# Altium footprint library SparkFun-Boards.PCBLIB: 38 footprints (part 1 of 3)
Each footprint in its own frame and in the unit in brackets; x right, y up, seen from the top. Pads: shape width x height; smd on the part's side, far side on the other; paste and mask are expansions set on the pad; w line width, h text height; cw(c..) or ccw(c..) is an arc to the next point about the centre after c.
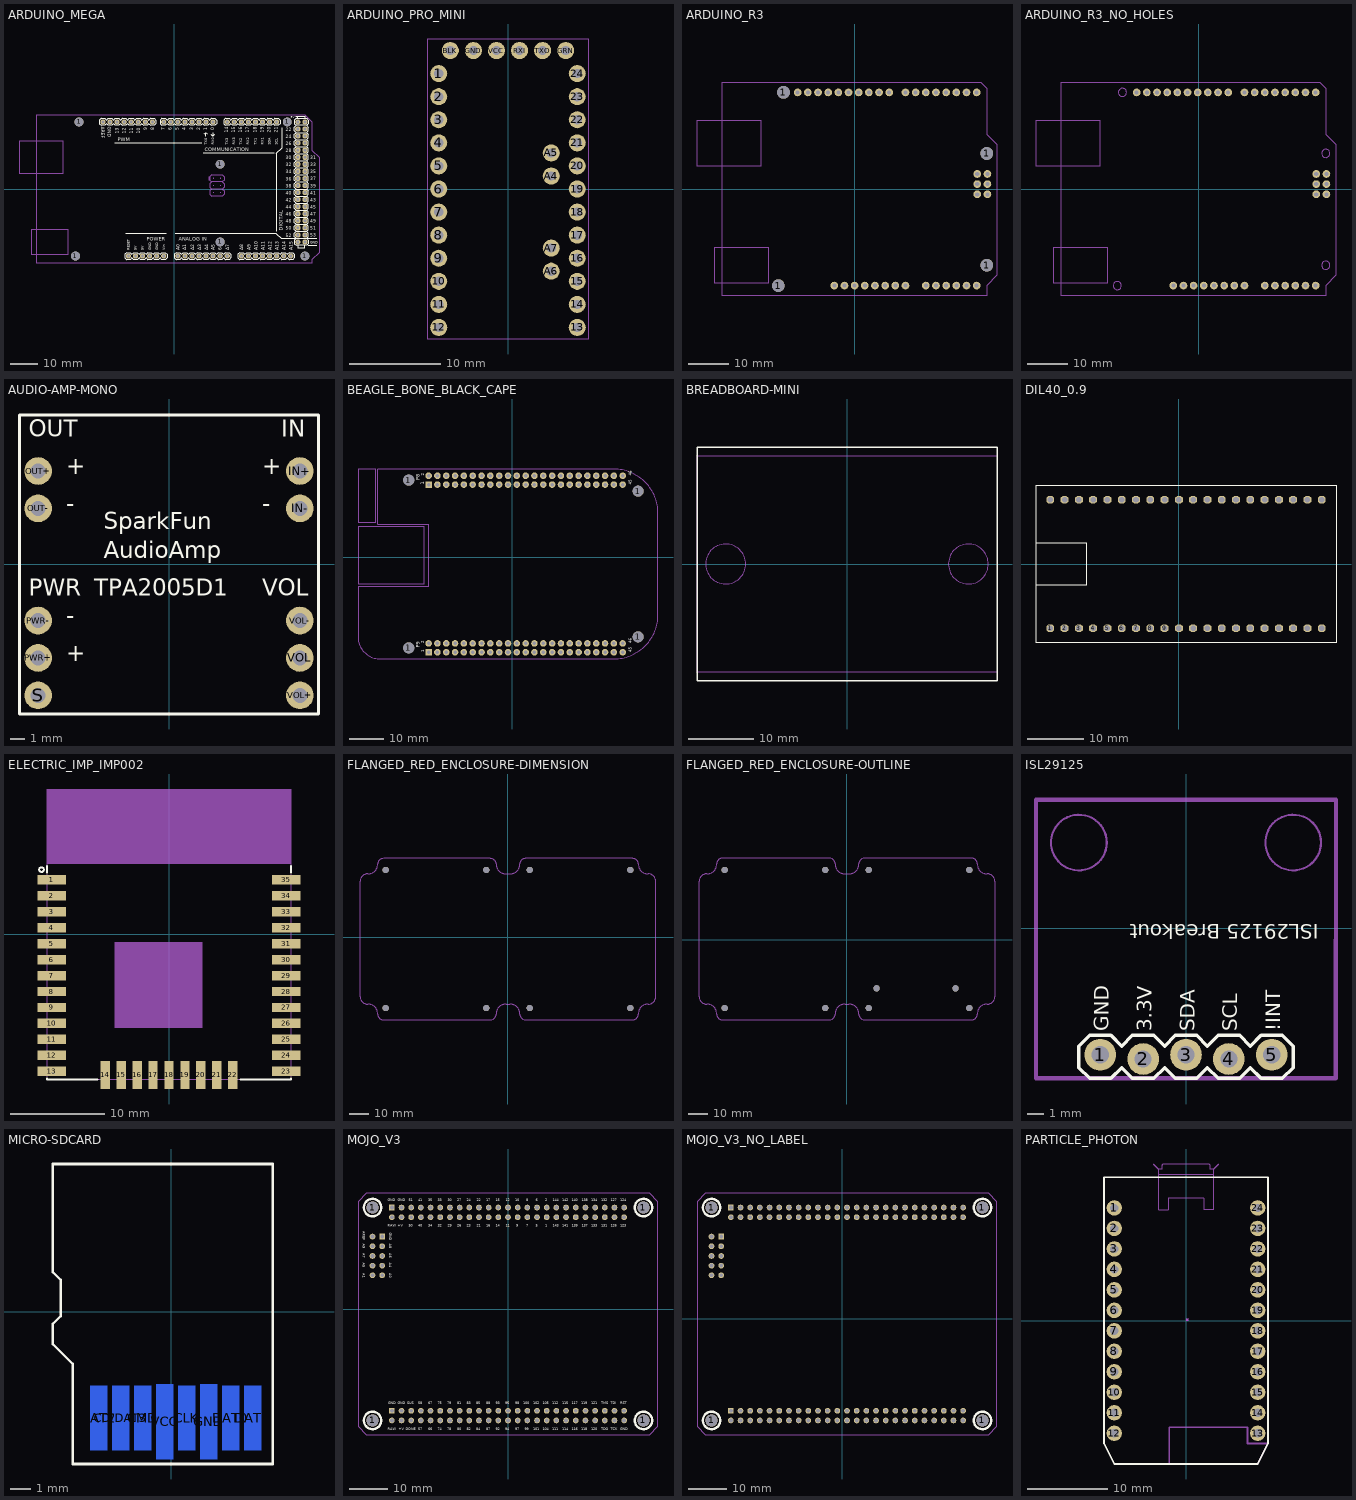
[diagram p0: the footprints below, top view; thin cyan lines are the x and y axes]

## ARDUINO_MEGA [mil]
pads (88):
  round 74 hole 40: 0(550,950) 1(450,950) 2(350,950) 3(250,950) 3.3V(-550,-950) 4(150,950) 5(50,950) 5V@0(-450,-950) 5V@1(1750,950) 5V@2(1850,950) 6(-50,950) 7(-150,950) 8(-310,950) 9(-410,950) 10(-510,950) 11(-610,950) 12(-710,950) 13(-810,950) 14(750,950) 15(850,950) 16(950,950) 17(1050,950) 18(1150,950) 19(1250,950) 20(1350,950) 21(1450,950) A0(50,-950) A1(150,-950) A2(250,-950) A3(350,-950) A4(450,-950) A5(550,-950) A6(650,-950) A7(750,-950) A8(950,-950) A9(1050,-950) A10(1150,-950) A11(1250,-950) A12(1350,-950) A13(1450,-950) A14(1550,-950) A15(1650,-950) AREF(-1010,950) GND@0(-350,-950) GND@1(-250,-950) GND@2(1750,-750) GND@3(1850,-750) GND@4(-910,950) RESET(-650,-950) VIN(-150,-950)
  round 125.98 hole 125.98: 1(-1400,-950) 1(-1350,950) 1(650,-750) 1(650,350) 1(1600,950) 1(1850,-950)
  oct 74x74 hole 40: 22(1750,850) 23(1850,850) 24(1750,750) 25(1850,750) 26(1750,650) 27(1850,650) 28(1750,550) 29(1850,550) 30(1750,450) 31(1850,450) 32(1750,350) 33(1850,350) 34(1750,250) 35(1850,250) 36(1750,150) 37(1850,150) 38(1750,50) 39(1850,50) 40(1750,-50) 41(1850,-50) 42(1750,-150) 43(1850,-150) 44(1750,-250) 45(1850,-250) 46(1750,-350) 47(1850,-350) 48(1750,-450) 49(1850,-450) 50(1750,-550) 51(1850,-550) 52(1750,-650) 53(1850,-650)
Top Overlay:
  drawing of 438 lines, arcs and shapes, not listed
  text "0" at 565,830 h47.6
  text "1" at 465,830 h47.6
  text "2" at 365,830 h47.6
  text "3" at 265,830 h47.6
  text "4" at 165,830 h47.6
  text "5" at 65,830 h47.6
  text "6" at -35,830 h47.6
  text "7" at -135,830 h47.6
  text "8" at -285,830 h47.6
  text "9" at -385,830 h47.6
  text "10" at -485,780 h47.6
  text "11" at -585,780 h47.6
  text "12" at -685,780 h47.6
  text "13" at -785,780 h47.6
  text "14" at 765,795 h47.6
  text "15" at 865,795 h47.6
  text "16" at 965,795 h47.6
  text "17" at 1065,795 h47.6
  text "18" at 1165,795 h47.6
  text "19" at 1265,795 h47.6
  text "20" at 1365,795 h47.6
  text "21" at 1465,795 h47.6
  text "22" at 1581,820 h47.6
  text "24" at 1581,720 h47.6
  text "26" at 1581,620 h47.6
  text "28" at 1581,520 h47.6
  text "30" at 1581,420 h47.6
  text "32" at 1581,320 h47.6
  text "34" at 1581,220 h47.6
  text "36" at 1581,120 h47.6
  text "38" at 1581,20 h47.6
  text "40" at 1581,-80 h47.6
  text "42" at 1581,-180 h47.6
  text "44" at 1581,-280 h47.6
  text "46" at 1581,-380 h47.6
  text "50" at 1581,-580 h47.6
  text "48" at 1581,-480 h47.6
  text "52" at 1581,-680 h47.6
  text "31" at 1925,421 h47.6
  text "33" at 1925,321 h47.6
  text "35" at 1925,221 h47.6
  text "37" at 1925,121 h47.6
  text "39" at 1925,21 h47.6
  text "41" at 1925,-79 h47.6
  text "43" at 1925,-179 h47.6
  text "45" at 1925,-279 h47.6
  text "47" at 1925,-379 h47.6
  text "49" at 1925,-479 h47.6
  text "51" at 1925,-579 h47.6
  text "53" at 1925,-679 h47.6
  text "A0" at 80,-869 h47.6
  text "A1" at 170,-869 h47.6
  text "A2" at 280,-869 h47.6
  text "A3" at 380,-869 h47.6
  text "A4" at 480,-869 h47.6
  text "A5" at 575,-869 h47.6
  text "6" at 675,-869 h47.6
  text "A7" at 780,-869 h47.6
  text "A8" at 980,-869 h47.6
  text "A9" at 1080,-869 h47.6
  text "A10" at 1180,-869 h47.6
  text "A11" at 1280,-869 h47.6
  text "A12" at 1380,-869 h47.6
  text "A13" at 1480,-869 h47.6
  text "A14" at 1580,-869 h47.6
  text "A15" at 1675,-869 h47.6
  text "ANALOG IN" at 60,-730 h51
  text "COMMUNICATION" at 430,535 h51
  text "DIGITAL" at 1535,-590 h51
  text "GND" at 1925,-779 h34
  text "TX0" at 465,630 h34
  text "RX0" at 565,630 h34
  text "PWM" at -800,675 h51
  text "TX3" at 765,630 h34
  text "RX3" at 865,630 h34
  text "TX2" at 965,630 h34
  text "RX2" at 1065,630 h34
  text "TX1" at 1165,630 h34
  text "RX1" at 1265,630 h34
  text "SDA" at 1365,630 h34
  text "SCL" at 1465,630 h34
  text "POWER" at -390,-730 h51
  text "RESET" at -630,-869 h34
  text "5V" at -530,-869 h34
  text "5V" at -430,-869 h34
  text "GND" at -330,-869 h34
  text "GND" at -230,-869 h34
  text "Vin" at -130,-869 h34
  text "GND" at -940,880 h47.6
  text "AREF" at -1035,880 h47.6
  text "5V" at 1650,1000 h29.75
Mechanical 16:
  rectangle: 1540,-960 1560,-940
  rectangle: 1440,-960 1460,-940
  rectangle: 1340,-960 1360,-940
  rectangle: 1240,-960 1260,-940
  rectangle: 1140,-960 1160,-940
  rectangle: 1040,-960 1060,-940
  rectangle: 940,-960 960,-940
  rectangle: 1640,-960 1660,-940
  rectangle: 1340,940 1360,960
  rectangle: 1240,940 1260,960
  rectangle: 1140,940 1160,960
  rectangle: 1040,940 1060,960
  rectangle: 940,940 960,960
  rectangle: 840,940 860,960
  rectangle: 740,940 760,960
  rectangle: 1440,940 1460,960
  rectangle: 640,-960 660,-940
  rectangle: 540,-960 560,-940
  rectangle: 440,-960 460,-940
  rectangle: 340,-960 360,-940
  rectangle: 240,-960 260,-940
  rectangle: 140,-960 160,-940
  rectangle: 40,-960 60,-940
  rectangle: 740,-960 760,-940
  rectangle: 440,940 460,960
  rectangle: 340,940 360,960
  rectangle: 240,940 260,960
  rectangle: 140,940 160,960
  rectangle: 40,940 60,960
  rectangle: -60,940 -40,960
  rectangle: -160,940 -140,960
  rectangle: 540,940 560,960
  rectangle: -420,940 -400,960
  rectangle: -520,940 -500,960
  rectangle: -620,940 -600,960
  rectangle: -720,940 -700,960
  rectangle: -820,940 -800,960
  rectangle: -920,940 -900,960
  rectangle: -1020,940 -1000,960
  rectangle: -320,940 -300,960
  region: 545,160 545,140 565,140 565,160
  region: 645,160 645,140 665,140 665,160
  region: 645,60 645,40 665,40 665,60
  region: 545,60 545,40 565,40 565,60
  region: 645,-40 645,-60 665,-60 665,-40
  region: 545,-40 545,-60 565,-60 565,-40
  region: 1860,140 1860,160 1840,160 1840,140
  region: 1760,140 1760,160 1740,160 1740,140
  region: 1760,240 1760,260 1740,260 1740,240
  region: 1860,240 1860,260 1840,260 1840,240
  region: 1760,340 1760,360 1740,360 1740,340
  region: 1860,340 1860,360 1840,360 1840,340
  region: 1760,440 1760,460 1740,460 1740,440
  region: 1760,540 1760,560 1740,560 1740,540
  region: 1760,640 1760,660 1740,660 1740,640
  region: 1860,440 1860,460 1840,460 1840,440
  region: 1860,540 1860,560 1840,560 1840,540
  region: 1860,640 1860,660 1840,660 1840,640
  region: 1760,740 1760,760 1740,760 1740,740
  region: 1860,740 1860,760 1840,760 1840,740
  region: 1760,840 1760,860 1740,860 1740,840
  region: 1860,840 1860,860 1840,860 1840,840
  region: 1860,-660 1860,-640 1840,-640 1840,-660
  region: 1760,-660 1760,-640 1740,-640 1740,-660
  region: 1760,-560 1760,-540 1740,-540 1740,-560
  region: 1860,-560 1860,-540 1840,-540 1840,-560
  region: 1760,-460 1760,-440 1740,-440 1740,-460
  region: 1860,-460 1860,-440 1840,-440 1840,-460
  region: 1760,-360 1760,-340 1740,-340 1740,-360
  region: 1760,-260 1760,-240 1740,-240 1740,-260
  region: 1760,-160 1760,-140 1740,-140 1740,-160
  region: 1860,-360 1860,-340 1840,-340 1840,-360
  region: 1860,-260 1860,-240 1840,-240 1840,-260
  region: 1860,-160 1860,-140 1840,-140 1840,-160
  region: 1760,-60 1760,-40 1740,-40 1740,-60
  region: 1860,-60 1860,-40 1840,-40 1840,-60
  region: 1760,40 1760,60 1740,60 1740,40
  region: 1860,40 1860,60 1840,60 1840,40
  rectangle: 1840,-760 1860,-740
  rectangle: 1740,-760 1760,-740
  rectangle: 1840,940 1860,960
  rectangle: 1740,940 1760,960
  rectangle: -160,-960 -140,-940
  rectangle: -260,-960 -240,-940
  rectangle: -360,-960 -340,-940
  rectangle: -460,-960 -440,-940
  rectangle: -560,-960 -540,-940
  rectangle: -660,-960 -640,-940
  lines w5: -2200,225 -2200,675 -1575,675 -1575,225 -2200,225 ; -2025,-925 -1500,-925 -1500,-575 -2025,-575 -2025,-925
  lines w8: 491.81,125 491.81,175 ; 530,0 505,25 505,75 530,100 ; 530,0 505,-25 505,-75 530,-100 680,-100 705,-75 705,-25 680,0 ; 530,0 680,0 ; 530,100 505,125 505,175 530,200 680,200 705,175 705,125 680,100 ; 530,100 680,100 ; 680,0 705,25 705,75 680,100 ; -1950,-1050 1950,-1050 1950,-1000 2050,-900 2050,450 1950,550 1950,950 1850,1050 -1950,1050 -1950,-1050

## ARDUINO_PRO_MINI [mil]
pads (34):
  round 74 hole 40: 1(-300,500) 2(-300,400) 3(-300,300) 4(-300,200) 5(-300,100) 6(-300,0) 7(-300,-100) 8(-300,-200) 9(-300,-300) 10(-300,-400) 11(-300,-500) 12(-300,-600) 13(300,-600) 14(300,-500) 15(300,-400) 16(300,-300) 17(300,-200) 18(300,-100) 19(300,0) 20(300,100) 21(300,200) 22(300,300) 23(300,400) 24(300,500) A4(187.5,56.25) A5(187.5,156.25) A6(187.5,-356.25) A7(187.5,-256.25) BLK(-250,600) GND(-150,600) GRN(250,600) RXI(50,600) TXO(150,600) VCC(-50,600)
Mechanical 16:
  lines w5: -350,-650 -350,650 350,650 350,-650 -350,-650

## ARDUINO_R3 [mil]
pads (42):
  round 125 hole 125: 1(-750,-950) 1(-700,950) 1(1300,-750) 1(1300,350)
  round 76 hole 40: 3.3V(100,-950) 5V(200,-950) A0(700,-950) A1(800,-950) A2(900,-950) A3(1000,-950) A4(1100,-950) A5(1200,-950) AREF(-360,950) D0(1200,950) D1(1100,950) D2(1000,950) D3(900,950) D4(800,950) D5(700,950) D6(600,950) D7(500,950) D8(340,950) D9(240,950) D10(140,950) D11(40,950) D12(-60,950) D13(-160,950) GND@1(300,-950) GND@2(400,-950) GND@3(-260,950) GND@4(1305.51,-51.97) IOREF(-100,-950) MISO(1205.51,148.03) MOSI(1305.51,48.03) NC(-200,-950) RESET@1(0,-950) RESET@2(1205.51,-51.97) SCK(1205.51,48.03) SCL(-560,950) SDA(-460,950) VCC(1305.51,148.03) VIN(500,-950)
Mechanical 16:
  lines w8: -1550,225 -925,225 -925,675 -1550,675 -1550,225 ; -1375,-925 -1375,-575 -850,-575 -850,-925 -1375,-925 ; -1300,-1050 -1300,1050 1240,1050 1300,990 1300,540 1400,440 1400,-850 1300,-950 1300,-1050 -1300,-1050
  text "SCL" at -560,900 h27.2
  text "SDA" at -460,900 h27.2
  text "AREF" at -360,900 h27.2
  text "GND" at -260,900 h27.2
  text "D13" at -160,900 h27.2
  text "D12" at -60,900 h27.2
  text "D11" at 40,900 h27.2
  text "D10" at 140,900 h27.2
  text "D9" at 240,900 h27.2
  text "D8" at 340,900 h27.2
  text "D7" at 500,900 h27.2
  text "D6" at 600,900 h27.2
  text "D5" at 700,900 h27.2
  text "D4" at 800,900 h27.2
  text "D3" at 900,900 h27.2
  text "D2" at 1000,900 h27.2
  text "D0/RXI" at 1200,900 h27.2
  text "D1/TXO" at 1100,900 h27.2
  text "!RESET!" at 0,-900 h27.2
  text "3.3V" at 100,-900 h27.2
  text "5V" at 200,-900 h27.2
  text "GND" at 300,-900 h27.2
  text "GND" at 400,-900 h27.2
  text "VIN" at 500,-900 h27.2
  text "A0" at 700,-900 h27.2
  text "A1" at 800,-900 h27.2
  text "A2" at 900,-900 h27.2
  text "A3" at 1000,-900 h27.2
  text "A4" at 1100,-900 h27.2
  text "A5" at 1200,-900 h27.2
  text "IOREF" at -100,-900 h27.2
  text "MISO" at 1150,150 h27.2
  text "SCK" at 1150,50 h27.2
  text "RST" at 1150,-50 h27.2
  text "GND" at 1350,-50 h27.2
  text "MOSI" at 1350,50 h27.2
  text "5V" at 1350,150 h27.2

## ARDUINO_R3_NO_HOLES [mil]
pads (38):
  round 76 hole 40: 3.3V(50,-950) 5V(150,-950) A0(650,-950) A1(750,-950) A2(850,-950) A3(950,-950) A4(1050,-950) A5(1150,-950) AREF(-410,950) D0(1150,950) D1(1050,950) D2(950,950) D3(850,950) D4(750,950) D5(650,950) D6(550,950) D7(450,950) D8(290,950) D9(190,950) D10(90,950) D11(-10,950) D12(-110,950) D13(-210,950) GND@1(250,-950) GND@2(350,-950) GND@3(-310,950) GND@4(1255.51,-51.97) IOREF(-150,-950) MISO(1155.51,148.03) MOSI(1255.51,48.03) NC(-250,-950) RESET@1(-50,-950) RESET@2(1155.51,-51.97) SCK(1155.51,48.03) SCL(-610,950) SDA(-510,950) VCC(1255.51,148.03) VIN(450,-950)
Mechanical 16:
  circle w5: c-800,-950 r40.31
  circle w5: c1250,-750 r40.31
  circle w5: c1250,350 r40.31
  circle w5: c-750,950 r40.31
  lines w8: -1600,225 -975,225 -975,675 -1600,675 -1600,225 ; -1425,-925 -1425,-575 -900,-575 -900,-925 -1425,-925 ; -1350,-1050 -1350,1050 1190,1050 1250,990 1250,540 1350,440 1350,-850 1250,-950 1250,-1050 -1350,-1050
  text "SCL" at -610,900 h27.2
  text "SDA" at -510,900 h27.2
  text "AREF" at -410,900 h27.2
  text "GND" at -310,900 h27.2
  text "D13" at -210,900 h27.2
  text "D12" at -110,900 h27.2
  text "D11" at -10,900 h27.2
  text "D10" at 90,900 h27.2
  text "D9" at 190,900 h27.2
  text "D8" at 290,900 h27.2
  text "D7" at 450,900 h27.2
  text "D6" at 550,900 h27.2
  text "D5" at 650,900 h27.2
  text "D4" at 750,900 h27.2
  text "D3" at 850,900 h27.2
  text "D2" at 950,900 h27.2
  text "D0/RXI" at 1150,900 h27.2
  text "D1/TXO" at 1050,900 h27.2
  text "!RESET!" at -50,-900 h27.2
  text "3.3V" at 50,-900 h27.2
  text "5V" at 150,-900 h27.2
  text "GND" at 250,-900 h27.2
  text "GND" at 350,-900 h27.2
  text "VIN" at 450,-900 h27.2
  text "A0" at 650,-900 h27.2
  text "A1" at 750,-900 h27.2
  text "A2" at 850,-900 h27.2
  text "A3" at 950,-900 h27.2
  text "A4" at 1050,-900 h27.2
  text "A5" at 1150,-900 h27.2
  text "IOREF" at -150,-900 h27.2
  text "MISO" at 1100,150 h27.2
  text "SCK" at 1100,50 h27.2
  text "RST" at 1100,-50 h27.2
  text "GND" at 1300,-50 h27.2
  text "MOSI" at 1300,50 h27.2
  text "5V" at 1300,150 h27.2

## AUDIO-AMP-MONO [mil]
pads (10):
  round 74 hole 40: IN+(350,250) IN-(350,150) OUT+(-350,250) OUT-(-350,150) PWR+(-350,-250) PWR-(-350,-150) S(-350,-350) VOL(350,-250) VOL+(350,-350) VOL-(350,-150)
Top Overlay:
  lines w8: -400,-400 400,-400 400,400 -400,400 -400,-400
  text "SparkFun" at -175,77.5 h77.5
  text "AudioAmp" at -175,0 h77.5
  text "TPA2005D1" at -200,-100 h77.5
  text "OUT" at -375,325 h77.5
  text "IN" at 300,325 h77.5
  text "+" at 250,225 h77.5
  text "-" at 250,125 h77.5
  text "-" at -275,125 h77.5
  text "+" at -275,225 h77.5
  text "PWR" at -375,-100 h77.5
  text "VOL" at 250,-100 h77.5
  text "+" at -275,-275 h77.5
  text "-" at -275,-175 h77.5

## BEAGLE_BONE_BLACK_CAPE [mil]
pads (96):
  round 125 hole 125: 1(-1175,-1025) 1(-1175,875) 1(1425,-900) 1(1425,750)
  rect 74x74 hole 40: P8.1(-950,825) P9.1(-950,-1075)
  round 74 hole 40: P8.2(-950,925) P8.3(-850,825) P8.4(-850,925) P8.5(-750,825) P8.6(-750,925) P8.7(-650,825) P8.8(-650,925) P8.9(-550,825) P8.10(-550,925) P8.11(-450,825) P8.12(-450,925) P8.13(-350,825) P8.14(-350,925) P8.15(-250,825) P8.16(-250,925) P8.17(-150,825) P8.18(-150,925) P8.19(-50,825) P8.20(-50,925) P8.21(50,825) P8.22(50,925) P8.23(150,825) P8.24(150,925) P8.25(250,825) P8.26(250,925) P8.27(350,825) P8.28(350,925) P8.29(450,825) P8.30(450,925) P8.31(550,825) P8.32(550,925) P8.33(650,825) P8.34(650,925) P8.35(750,825) P8.36(750,925) P8.37(850,825) P8.38(850,925) P8.39(950,825) P8.40(950,925) P8.41(1050,825) P8.42(1050,925) P8.43(1150,825) P8.44(1150,925) P8.45(1250,825) P8.46(1250,925) P9.2(-950,-975) P9.3(-850,-1075) P9.4(-850,-975) P9.5(-750,-1075) P9.6(-750,-975) P9.7(-650,-1075) P9.8(-650,-975) P9.9(-550,-1075) P9.10(-550,-975) P9.11(-450,-1075) P9.12(-450,-975) P9.13(-350,-1075) P9.14(-350,-975) P9.15(-250,-1075) P9.16(-250,-975) P9.17(-150,-1075) P9.18(-150,-975) P9.19(-50,-1075) P9.20(-50,-975) P9.21(50,-1075) P9.22(50,-975) P9.23(150,-1075) P9.24(150,-975) P9.25(250,-1075) P9.26(250,-975) P9.27(350,-1075) P9.28(350,-975) P9.29(450,-1075) P9.30(450,-975) P9.31(550,-1075) P9.32(550,-975) P9.33(650,-1075) P9.34(650,-975) P9.35(750,-1075) P9.36(750,-975) P9.37(850,-1075) P9.38(850,-975) P9.39(950,-1075) P9.40(950,-975) P9.41(1050,-1075) P9.42(1050,-975) P9.43(1150,-1075) P9.44(1150,-975) P9.45(1250,-1075) P9.46(1250,-975)
Top Overlay:
  text "1" at -1000,825 h42.5
  text "2" at -1000,925 h34
  text "P8" at -1050,875 h42.5
  text "45" at 1350,825 h34
  text "46" at 1350,925 h34
  text "46" at 1350,-975 h34
  text "45" at 1350,-1075 h34
  text "1" at -1000,-1075 h34
  text "2" at -1000,-975 h34
  text "P9" at -1050,-1025 h42.5
Bottom Overlay:
  text "P8" at -1050,875 h42.5
  text "P9" at -1050,-1025 h42.5
  text "1" at -1000,825 h42.5
  text "1" at -1000,-1075 h34
  text "2" at -1000,-975 h34
  text "2" at -1000,925 h34
  text "46" at 1350,925 h34
  text "45" at 1350,825 h34
  text "45" at 1350,-1075 h34
  text "46" at 1350,-975 h34
Mechanical 13:
  lines w5: -1750,-300 -1000,-300 -1000,350 -1750,350 -1750,-300 ; -1750,400 -1550,400 -1550,1000 -1750,1000 -1750,400
  text "Ethernet" at -1450,50 h42.5
  text "LED/Button" at -1650,700 h42.5
  text "Cutout" at -1300,50 h42.5
Mechanical 16:
  lines w5: -1750,-900 ccw(c-1500,-900) -1500,-1150 1150,-1150 ccw(c1150,-650) 1650,-650 1650,500 ccw(c1150,500) 1150,1000 -1525,1000 -1525,375 -950,375 -950,-325 -1750,-325 -1750,-900

## BREADBOARD-MINI [mil]
Top Overlay:
  lines w8: -900,-700 -900,700 900,700 900,-700 -900,-700
Mechanical 16:
  circle w5: c-728.35,0 r120
  circle w5: c728.35,0 r120
  lines w5: -900,-650 900,-650 900,650 -900,650 -900,-650

## DIL40_0.9 [mil]
pads (40):
  oct 55x55 hole 39.37: 1(-900,-450) 2(-800,-450) 3(-700,-450) 4(-600,-450) 5(-500,-450) 6(-400,-450) 7(-300,-450) 8(-200,-450) 9(-100,-450) 10(0,-450) 11(100,-450) 12(200,-450) 13(300,-450) 14(400,-450) 15(500,-450) 16(600,-450) 17(700,-450) 18(800,-450) 19(900,-450) 20(1000,-450) 21(1000,450) 22(900,450) 23(800,450) 24(700,450) 25(600,450) 26(500,450) 27(400,450) 28(300,450) 29(200,450) 30(100,450) 31(0,450) 32(-100,450) 33(-200,450) 34(-300,450) 35(-400,450) 36(-500,450) 37(-600,450) 38(-700,450) 39(-800,450) 40(-900,450)
Top Overlay:
  lines w5: -1000,-150 -1000,-550 1100,-550 1100,550 -1000,550 -1000,150 ; -1000,-150 -1000,150 ; -1000,-150 -650,-150 -650,150 -1000,150

## ELECTRIC_IMP_IMP002 [mm]
pads (35):
  rect 3x1 smd: 1(-12.5,5.8) 2(-12.5,4.1) 3(-12.5,2.4) 4(-12.5,0.7) 5(-12.5,-1) 6(-12.5,-2.7) 7(-12.5,-4.4) 8(-12.5,-6.1) 9(-12.5,-7.8) 10(-12.5,-9.5) 11(-12.5,-11.2) 12(-12.5,-12.9) 13(-12.5,-14.6) 23(12.5,-14.6) 24(12.5,-12.9) 25(12.5,-11.2) 26(12.5,-9.5) 27(12.5,-7.8) 28(12.5,-6.1) 29(12.5,-4.4) 30(12.5,-2.7) 31(12.5,-1) 32(12.5,0.7) 33(12.5,2.4) 34(12.5,4.1) 35(12.5,5.8)
  rect 1x3 smd: 14(-6.8,-15) 15(-5.1,-15) 16(-3.4,-15) 17(-1.7,-15) 18(0,-15) 19(1.7,-15) 20(3.4,-15) 21(5.1,-15) 22(6.8,-15)
Top Overlay:
  circle w0.203: c-13.6,6.9 r0.25
  lines w0.203: -13,-15.4 -13,-15.5 -7.6,-15.5 ; -13,6.6 -13,7.3 ; 7.6,-15.5 13,-15.5 13,-15.4 ; 13,6.6 13,7.3
Mechanical 16:
  rectangle: -13,7.5 13,15.5
  rectangle: -5.8,-10 3.6,-0.8
  lines w0.127: -13,-15.5 13,-15.5 13,15.5 -13,15.5 -13,-15.5

## FLANGED_RED_ENCLOSURE-DIMENSION [mm]
pads (8):
  round 3.175 hole 3.175: 1(-61.93,-35.91) 1(-61.93,34.09) 1(-10.93,-35.91) 1(-10.93,34.09) 1(11.07,-35.91) 1(11.07,34.09) 1(62.07,-35.91) 1(62.07,34.09)
Mechanical 1:
  lines w0.203: -74.93,-29.91 -74.93,28.09 cw(c-70.93,28.09) -70.93,32.09 ccw(c-70.93,37.09) -65.93,37.09 cw(c-63.067,37.015) -62.992,39.878 -8.89,39.878 cw(c-8.804,37.004) -5.93,37.09 ccw(c-0.93,37.09) -0.93,32.09 1.07,32.09 ccw(c1.07,37.09) 6.07,37.09 cw(c8.874,37.074) 8.89,39.878 63.246,39.878 cw(c63.264,37.072) 66.07,37.09 ccw(c71.07,37.09) 71.07,32.09 cw(c71.179,28.339) 74.93,28.448 74.93,-30.226 cw(c71.158,-30.138) 71.07,-33.91 ccw(c71.07,-38.91) 66.07,-38.91 cw(c63.07,-38.91) 63.07,-41.91 9.07,-41.91 cw(c9.07,-38.91) 6.07,-38.91 ccw(c1.07,-38.91) 1.07,-33.91 -0.93,-33.91 ccw(c-0.93,-38.91) -5.93,-38.91 cw(c-8.93,-38.91) -8.93,-41.91 -62.93,-41.91 cw(c-62.93,-38.91) -65.93,-38.91 ccw(c-70.93,-38.91) -70.93,-33.91 cw(c-70.93,-29.91) -74.93,-29.91

## FLANGED_RED_ENCLOSURE-OUTLINE [mm]
pads (10):
  round 3.175 hole 3.175: 1(-61.93,-34.64) 1(-61.93,35.36) 1(-10.93,-34.64) 1(-10.93,35.36) 1(11.07,-34.64) 1(11.07,35.36) 1(15.07,-24.64) 1(55.07,-24.64) 1(62.07,-34.64) 1(62.07,35.36)
Mechanical 16:
  lines w0.203: -74.93,-28.64 -74.93,29.36 cw(c-70.93,29.36) -70.93,33.36 ccw(c-70.93,38.36) -65.93,38.36 cw(c-62.93,38.36) -62.93,41.36 -8.93,41.36 cw(c-8.93,38.36) -5.93,38.36 ccw(c-0.93,38.36) -0.93,33.36 1.07,33.36 ccw(c1.07,38.36) 6.07,38.36 cw(c9.07,38.36) 9.07,41.36 63.07,41.36 cw(c63.07,38.36) 66.07,38.36 ccw(c71.07,38.36) 71.07,33.36 cw(c71.07,29.36) 75.07,29.36 75.07,-28.64 cw(c71.07,-28.64) 71.07,-32.64 ccw(c71.07,-37.64) 66.07,-37.64 cw(c63.07,-37.64) 63.07,-40.64 9.07,-40.64 cw(c9.07,-37.64) 6.07,-37.64 ccw(c1.07,-37.64) 1.07,-32.64 -0.93,-32.64 ccw(c-0.93,-37.64) -5.93,-37.64 cw(c-8.93,-37.64) -8.93,-40.64 -62.93,-40.64 cw(c-62.93,-37.64) -65.93,-37.64 ccw(c-70.93,-37.64) -70.93,-32.64 cw(c-70.93,-28.64) -74.93,-28.64

## ISL29125 [mil]
pads (5):
  round 74 hole 40: 1(-200,-295) 2(-100,-305) 3(0,-295) 4(100,-305) 5(200,-295)
Top Overlay:
  lines w8: -250,-325 -250,-275 -225,-250 -175,-250 -150,-275 -125,-250 -75,-250 -50,-275 -25,-250 25,-250 50,-275 75,-250 125,-250 150,-275 175,-250 225,-250 250,-275 250,-325 225,-350 175,-350 150,-325 125,-350 75,-350 50,-325 25,-350 -25,-350 -50,-325 -75,-350 -125,-350 -150,-325 -175,-350 -225,-350 -250,-325
  text "GND" at -180,-240 h34
  text "3.3V" at -80,-240 h34
  text "SDA" at 20,-240 h34
  text "SCL" at 120,-240 h34
  text "!INT" at 220,-240 h34
  text "ISL29125 Breakout" at 310,10 h34
Mechanical 16:
  circle w5: c-250,200 r65
  circle w5: c250,200 r65
  rectangle: 190,-310 210,-290
  rectangle: 90,-310 110,-290
  rectangle: -10,-310 10,-290
  rectangle: -110,-310 -90,-290
  rectangle: -210,-310 -190,-290
  lines w10: -350,-350 349.21,-350 350,300 -350,300 -350,-350

## MICRO-SDCARD [mm]
pads (8):
  rect 0.85x3.25 smd far side: CD/DAT3(-2.52,-5.32) CLK(0.78,-5.32) CMD(-1.42,-5.32) DAT0(2.98,-5.32) DAT1(4.08,-5.32) DAT2(-3.62,-5.32)
  rect 0.85x3.75 smd far side: GND(1.88,-5.52) VCC(-0.32,-5.52)
Top Overlay:
  lines w0.127: -5.92,-1.62 -5.92,-0.62 -5.52,-0.22 -5.52,1.58 -5.92,1.98 -5.92,7.38 5.08,7.38 5.08,-7.62 -4.92,-7.62 -4.92,-2.62 -5.92,-1.62

## MOJO_V3 [mm]
pads (114):
  round 3.2 hole 3.2: 1(-35.56,-29.21) 1(-35.56,26.67) 1(35.56,-29.21) 1(35.56,26.67)
  round 1.5 hole 1: 1(10.16,24.13) 2(10.16,26.67) 5(7.62,24.13) 6(7.62,26.67) 7(5.08,24.13) 8(5.08,26.67) 9(2.54,24.13) 10(2.54,26.67) 11(0,24.13) 12(0,26.67) 14(-2.54,24.13) 15(-2.54,26.67) 16(-5.08,24.13) 17(-5.08,26.67) 21(-7.62,24.13) 22(-7.62,26.67) 23(-10.16,24.13) 24(-10.16,26.67) 26(-12.7,24.13) 27(-12.7,26.67) 29(-15.24,24.13) 30(-15.24,26.67) 32(-17.78,24.13) 33(-17.78,26.67) 34(-20.32,24.13) 35(-20.32,26.67) 40(-22.86,24.13) 41(-22.86,26.67) 50(-25.4,24.13) 51(-25.4,26.67) 57(-22.86,-29.21) 58(-22.86,-26.67) 66(-20.32,-29.21) 67(-20.32,-26.67) 74(-17.78,-29.21) 75(-17.78,-26.67) 78(-15.24,-29.21) 79(-15.24,-26.67) 80(-12.7,-29.21) 81(-12.7,-26.67) 82(-10.16,-29.21) 83(-10.16,-26.67) 84(-7.62,-29.21) 85(-7.62,-26.67) 87(-5.08,-29.21) 88(-5.08,-26.67) 92(-2.54,-29.21) 93(-2.54,-26.67) 94(0,-29.21) 95(0,-26.67) 97(2.54,-29.21) 98(2.54,-26.67) 99(5.08,-29.21) 100(5.08,-26.67) 101(7.62,-29.21) 102(7.62,-26.67) 104(10.16,-29.21) 105(10.16,-26.67) 111(12.7,-29.21) 112(12.7,-26.67) 114(15.24,-29.21) 115(15.24,-26.67) 116(17.78,-29.21) 117(17.78,-26.67) 118(20.32,-29.21) 119(20.32,-26.67) 120(22.86,-29.21) 121(22.86,-26.67) 123(30.48,24.13) 124(30.48,26.67) 126(27.94,24.13) 127(27.94,26.67) 131(25.4,24.13) 132(25.4,26.67) 133(22.86,24.13) 134(22.86,26.67) 137(20.32,24.13) 138(20.32,26.67) 139(17.78,24.13) 140(17.78,26.67) 141(15.24,24.13) 142(15.24,26.67) 143(12.7,24.13) 144(12.7,26.67) A0(-33.02,8.89) A1(-35.56,8.89) A4(-33.02,11.43) A5(-35.56,11.43) A6(-33.02,13.97) A7(-35.56,13.97) A8(-33.02,16.51) A9(-35.56,16.51) AREF(-35.56,19.05) DONE(-25.4,-29.21) GND@2(-27.94,26.67) GND@4(-27.94,-26.67) GND@6(30.48,-29.21) RAW@1(-30.48,24.13) RAW@2(-30.48,-29.21) RST(30.48,-26.67) SUS(-25.4,-26.67) TCK(27.94,-29.21) TDI(27.94,-26.67) TDO(25.4,-29.21) TMS(25.4,-26.67) V@1(-27.94,24.13) V@2(-27.94,-29.21)
  rect 1.5x1.5 hole 1: GND@1(-30.48,26.67) GND@3(-30.48,-26.67) GND@5(-33.02,19.05)
Top Overlay:
  circle w0.61: c-35.56,26.67 r2.29
  circle w0.61: c-35.56,-29.21 r2.29
  circle w0.61: c35.56,26.67 r2.29
  circle w0.61: c35.56,-29.21 r2.29
  text "+V" at -28.892,21.59 h0.69
  text "GND" at -28.96,28.382 h0.69
  text "51" at -26.035,28.382 h0.69
  text "50" at -26.035,21.59 h0.69
  text "41" at -23.495,28.382 h0.69
  text "40" at -23.495,21.59 h0.69
  text "35" at -20.955,28.382 h0.69
  text "34" at -20.955,21.59 h0.69
  text "33" at -18.415,28.382 h0.69
  text "32" at -18.415,21.59 h0.69
  text "30" at -15.875,28.382 h0.69
  text "29" at -15.875,21.59 h0.69
  text "27" at -13.335,28.382 h0.69
  text "26" at -13.335,21.59 h0.69
  text "24" at -10.795,28.382 h0.69
  text "23" at -10.795,21.59 h0.69
  text "22" at -8.255,28.382 h0.69
  text "21" at -8.255,21.59 h0.69
  text "17" at -5.715,28.382 h0.69
  text "16" at -5.715,21.59 h0.69
  text "15" at -3.175,28.382 h0.69
  text "14" at -3.175,21.59 h0.69
  text "12" at -0.635,28.382 h0.69
  text "11" at -0.635,21.59 h0.69
  text "10" at 1.905,28.382 h0.69
  text "9" at 2.222,21.59 h0.69
  text "8" at 4.763,28.382 h0.69
  text "7" at 4.763,21.59 h0.69
  text "6" at 7.302,28.382 h0.69
  text "5" at 7.302,21.59 h0.69
  text "2" at 9.842,28.382 h0.69
  text "1" at 9.842,21.59 h0.69
  text "144" at 11.685,28.382 h0.69
  text "143" at 11.685,21.59 h0.69
  text "142" at 14.225,28.382 h0.69
  text "141" at 14.225,21.59 h0.69
  text "140" at 16.765,28.382 h0.69
  text "139" at 16.765,21.59 h0.69
  text "138" at 19.305,28.382 h0.69
  text "137" at 19.305,21.59 h0.69
  text "GND" at -31.522,28.382 h0.69
  text "RAW" at -31.522,21.57 h0.69
  text "134" at 21.872,28.382 h0.69
  text "133" at 21.872,21.59 h0.69
  text "132" at 24.412,28.382 h0.69
  text "131" at 24.412,21.59 h0.69
  text "127" at 26.952,28.382 h0.69
  text "126" at 26.952,21.59 h0.69
  text "124" at 29.492,28.382 h0.69
  text "123" at 29.492,21.59 h0.69
  text "+V" at -28.643,-31.75 h0.69
  text "GND" at -28.988,-24.958 h0.69
  text "58" at -23.535,-24.958 h0.69
  text "57" at -23.535,-31.75 h0.69
  text "67" at -20.995,-24.958 h0.69
  text "66" at -20.995,-31.75 h0.69
  text "75" at -18.455,-24.958 h0.69
  text "74" at -18.455,-31.75 h0.69
  text "79" at -15.915,-24.958 h0.69
  text "78" at -15.915,-31.75 h0.69
  text "81" at -13.375,-24.958 h0.69
  text "80" at -13.375,-31.75 h0.69
  text "83" at -10.835,-24.958 h0.69
  text "82" at -10.835,-31.75 h0.69
  text "85" at -8.295,-24.958 h0.69
  text "84" at -8.295,-31.75 h0.69
  text "88" at -5.755,-24.958 h0.69
  text "87" at -5.755,-31.75 h0.69
  text "93" at -3.215,-24.958 h0.69
  text "92" at -3.215,-31.75 h0.69
  text "95" at -0.675,-24.958 h0.69
  text "94" at -0.675,-31.75 h0.69
  text "98" at 1.865,-24.958 h0.69
  text "97" at 1.865,-31.75 h0.69
  text "100" at 4.025,-24.958 h0.69
  text "99" at 4.342,-31.75 h0.69
  text "102" at 6.565,-24.958 h0.69
  text "101" at 6.565,-31.75 h0.69
  text "105" at 9.105,-24.958 h0.69
  text "104" at 9.105,-31.75 h0.69
  text "112" at 11.645,-24.958 h0.69
  text "111" at 11.645,-31.75 h0.69
  text "115" at 14.185,-24.958 h0.69
  text "114" at 14.185,-31.75 h0.69
  text "117" at 16.725,-24.958 h0.69
  text "116" at 16.725,-31.75 h0.69
  text "121" at 21.805,-24.958 h0.69
  text "120" at 21.805,-31.75 h0.69
  text "119" at 19.265,-24.958 h0.69
  text "118" at 19.265,-31.75 h0.69
  text "RAW" at -31.5,-31.75 h0.69
  text "TMS" at 24.412,-24.958 h0.69
  text "TDO" at 24.412,-31.75 h0.69
  text "RST" at 29.492,-24.958 h0.69
  text "GND" at 29.492,-31.75 h0.69
  text "TDI" at 26.952,-24.958 h0.69
  text "TCK" at 26.952,-31.75 h0.69
  text "SUS" at -26.41,-24.958 h0.69
  text "DONE" at -26.785,-31.75 h0.69
  text "A0" at -31.205,9.475 h0.69
  text "A9" at -38.168,17.105 h0.69
  text "A1" at -38.168,9.475 h0.69
  text "A4" at -31.205,12.185 h0.69
  text "A5" at -38.168,12.185 h0.69
  text "A6" at -31.205,14.645 h0.69
  text "A7" at -38.168,14.645 h0.69
  text "A8" at -31.205,17.105 h0.69
  text "GND" at -31.205,20.07 h0.69
  text "AREF" at -38.168,20.445 h0.69
  text "GND" at -31.496,-24.958 h0.69
Bottom Overlay:
  circle w0.61: c-35.56,26.67 r2.29
  circle w0.61: c-35.56,-29.21 r2.29
  circle w0.61: c35.56,26.67 r2.29
  circle w0.61: c35.56,-29.21 r2.29
Mechanical 16:
  lines w0.203: -39.37,-30.797 -39.37,28.258 -37.148,30.48 37.148,30.48 39.37,28.258 39.37,-30.797 37.148,-33.02 -37.148,-33.02 -39.37,-30.797

## MOJO_V3_NO_LABEL [mm]
pads (114):
  round 3.2 hole 3.2: 1(-34.29,-26.67) 1(-34.29,29.21) 1(36.83,-26.67) 1(36.83,29.21)
  round 1.5 hole 1: 1(11.43,26.67) 2(11.43,29.21) 5(8.89,26.67) 6(8.89,29.21) 7(6.35,26.67) 8(6.35,29.21) 9(3.81,26.67) 10(3.81,29.21) 11(1.27,26.67) 12(1.27,29.21) 14(-1.27,26.67) 15(-1.27,29.21) 16(-3.81,26.67) 17(-3.81,29.21) 21(-6.35,26.67) 22(-6.35,29.21) 23(-8.89,26.67) 24(-8.89,29.21) 26(-11.43,26.67) 27(-11.43,29.21) 29(-13.97,26.67) 30(-13.97,29.21) 32(-16.51,26.67) 33(-16.51,29.21) 34(-19.05,26.67) 35(-19.05,29.21) 40(-21.59,26.67) 41(-21.59,29.21) 50(-24.13,26.67) 51(-24.13,29.21) 57(-21.59,-26.67) 58(-21.59,-24.13) 66(-19.05,-26.67) 67(-19.05,-24.13) 74(-16.51,-26.67) 75(-16.51,-24.13) 78(-13.97,-26.67) 79(-13.97,-24.13) 80(-11.43,-26.67) 81(-11.43,-24.13) 82(-8.89,-26.67) 83(-8.89,-24.13) 84(-6.35,-26.67) 85(-6.35,-24.13) 87(-3.81,-26.67) 88(-3.81,-24.13) 92(-1.27,-26.67) 93(-1.27,-24.13) 94(1.27,-26.67) 95(1.27,-24.13) 97(3.81,-26.67) 98(3.81,-24.13) 99(6.35,-26.67) 100(6.35,-24.13) 101(8.89,-26.67) 102(8.89,-24.13) 104(11.43,-26.67) 105(11.43,-24.13) 111(13.97,-26.67) 112(13.97,-24.13) 114(16.51,-26.67) 115(16.51,-24.13) 116(19.05,-26.67) 117(19.05,-24.13) 118(21.59,-26.67) 119(21.59,-24.13) 120(24.13,-26.67) 121(24.13,-24.13) 123(31.75,26.67) 124(31.75,29.21) 126(29.21,26.67) 127(29.21,29.21) 131(26.67,26.67) 132(26.67,29.21) 133(24.13,26.67) 134(24.13,29.21) 137(21.59,26.67) 138(21.59,29.21) 139(19.05,26.67) 140(19.05,29.21) 141(16.51,26.67) 142(16.51,29.21) 143(13.97,26.67) 144(13.97,29.21) A0(-31.75,11.43) A1(-34.29,11.43) A4(-31.75,13.97) A5(-34.29,13.97) A6(-31.75,16.51) A7(-34.29,16.51) A8(-31.75,19.05) A9(-34.29,19.05) AREF(-34.29,21.59) DONE(-24.13,-26.67) GND@2(-26.67,29.21) GND@4(-26.67,-24.13) GND@6(31.75,-26.67) RAW@1(-29.21,26.67) RAW@2(-29.21,-26.67) RST(31.75,-24.13) SUS(-24.13,-24.13) TCK(29.21,-26.67) TDI(29.21,-24.13) TDO(26.67,-26.67) TMS(26.67,-24.13) V@1(-26.67,26.67) V@2(-26.67,-26.67)
  rect 1.5x1.5 hole 1: GND@1(-29.21,29.21) GND@3(-29.21,-24.13) GND@5(-31.75,21.59)
Top Overlay:
  circle w0.61: c-34.29,29.21 r2.29
  circle w0.61: c36.83,29.21 r2.29
  circle w0.61: c-34.29,-26.67 r2.29
  circle w0.61: c36.83,-26.67 r2.29
Bottom Overlay:
  circle w0.61: c-34.29,29.21 r2.29
  circle w0.61: c36.83,29.21 r2.29
  circle w0.61: c-34.29,-26.67 r2.29
  circle w0.61: c36.83,-26.67 r2.29
Mechanical 16:
  lines w0.203: -38.1,-28.258 -38.1,30.797 -35.877,33.02 38.417,33.02 40.64,30.797 40.64,-28.258 38.417,-30.48 -35.877,-30.48 -38.1,-28.258
  text "+V" at -27.622,24.13 h0.69
  text "GND" at -27.69,30.922 h0.69
  text "51" at -24.765,30.922 h0.69
  text "50" at -24.765,24.13 h0.69
  text "41" at -22.225,30.922 h0.69
  text "40" at -22.225,24.13 h0.69
  text "35" at -19.685,30.922 h0.69
  text "34" at -19.685,24.13 h0.69
  text "33" at -17.145,30.922 h0.69
  text "32" at -17.145,24.13 h0.69
  text "30" at -14.605,30.922 h0.69
  text "29" at -14.605,24.13 h0.69
  text "27" at -12.065,30.922 h0.69
  text "26" at -12.065,24.13 h0.69
  text "24" at -9.525,30.922 h0.69
  text "23" at -9.525,24.13 h0.69
  text "22" at -6.985,30.922 h0.69
  text "21" at -6.985,24.13 h0.69
  text "17" at -4.445,30.922 h0.69
  text "16" at -4.445,24.13 h0.69
  text "15" at -1.905,30.922 h0.69
  text "14" at -1.905,24.13 h0.69
  text "12" at 0.635,30.922 h0.69
  text "11" at 0.635,24.13 h0.69
  text "10" at 3.175,30.922 h0.69
  text "9" at 3.492,24.13 h0.69
  text "8" at 6.032,30.922 h0.69
  text "7" at 6.032,24.13 h0.69
  text "6" at 8.572,30.922 h0.69
  text "5" at 8.572,24.13 h0.69
  text "2" at 11.112,30.922 h0.69
  text "1" at 11.112,24.13 h0.69
  text "144" at 12.955,30.922 h0.69
  text "143" at 12.955,24.13 h0.69
  text "142" at 15.495,30.922 h0.69
  text "141" at 15.495,24.13 h0.69
  text "140" at 18.035,30.922 h0.69
  text "139" at 18.035,24.13 h0.69
  text "138" at 20.575,30.922 h0.69
  text "137" at 20.575,24.13 h0.69
  text "GND" at -30.252,30.922 h0.69
  text "RAW" at -30.252,24.11 h0.69
  text "134" at 23.142,30.922 h0.69
  text "133" at 23.142,24.13 h0.69
  text "132" at 25.682,30.922 h0.69
  text "131" at 25.682,24.13 h0.69
  text "127" at 28.222,30.922 h0.69
  text "126" at 28.222,24.13 h0.69
  text "124" at 30.762,30.922 h0.69
  text "123" at 30.762,24.13 h0.69
  text "+V" at -27.373,-29.21 h0.69
  text "GND" at -27.718,-22.418 h0.69
  text "58" at -22.265,-22.418 h0.69
  text "57" at -22.265,-29.21 h0.69
  text "67" at -19.725,-22.418 h0.69
  text "66" at -19.725,-29.21 h0.69
  text "75" at -17.185,-22.418 h0.69
  text "74" at -17.185,-29.21 h0.69
  text "79" at -14.645,-22.418 h0.69
  text "78" at -14.645,-29.21 h0.69
  text "81" at -12.105,-22.418 h0.69
  text "80" at -12.105,-29.21 h0.69
  text "83" at -9.565,-22.418 h0.69
  text "82" at -9.565,-29.21 h0.69
  text "85" at -7.025,-22.418 h0.69
  text "84" at -7.025,-29.21 h0.69
  text "88" at -4.485,-22.418 h0.69
  text "87" at -4.485,-29.21 h0.69
  text "93" at -1.945,-22.418 h0.69
  text "92" at -1.945,-29.21 h0.69
  text "95" at 0.595,-22.418 h0.69
  text "94" at 0.595,-29.21 h0.69
  text "98" at 3.135,-22.418 h0.69
  text "97" at 3.135,-29.21 h0.69
  text "100" at 5.295,-22.418 h0.69
  text "99" at 5.612,-29.21 h0.69
  text "102" at 7.835,-22.418 h0.69
  text "101" at 7.835,-29.21 h0.69
  text "105" at 10.375,-22.418 h0.69
  text "104" at 10.375,-29.21 h0.69
  text "112" at 12.915,-22.418 h0.69
  text "111" at 12.915,-29.21 h0.69
  text "115" at 15.455,-22.418 h0.69
  text "114" at 15.455,-29.21 h0.69
  text "117" at 17.995,-22.418 h0.69
  text "116" at 17.995,-29.21 h0.69
  text "121" at 23.075,-22.418 h0.69
  text "120" at 23.075,-29.21 h0.69
  text "119" at 20.535,-22.418 h0.69
  text "118" at 20.535,-29.21 h0.69
  text "RAW" at -30.23,-29.21 h0.69
  text "TMS" at 25.682,-22.418 h0.69
  text "TDO" at 25.682,-29.21 h0.69
  text "RST" at 30.762,-22.418 h0.69
  text "GND" at 30.762,-29.21 h0.69
  text "TDI" at 28.222,-22.418 h0.69
  text "TCK" at 28.222,-29.21 h0.69
  text "SUS" at -25.14,-22.418 h0.69
  text "DONE" at -25.515,-29.21 h0.69
  text "A0" at -29.935,12.015 h0.69
  text "A9" at -36.898,19.645 h0.69
  text "A1" at -36.898,12.015 h0.69
  text "A4" at -29.935,14.725 h0.69
  text "A5" at -36.898,14.725 h0.69
  text "A6" at -29.935,17.185 h0.69
  text "A7" at -36.898,17.185 h0.69
  text "A8" at -29.935,19.645 h0.69
  text "GND" at -29.935,22.61 h0.69
  text "AREF" at -36.898,22.985 h0.69
  text "GND" at -30.226,-22.418 h0.69

## PARTICLE_PHOTON [mil]
pads (24):
  round 75 hole 40: 1(-350,550) 2(-350,450) 3(-350,350) 4(-350,250) 5(-350,150) 6(-350,50) 7(-350,-50) 8(-350,-150) 9(-350,-250) 10(-350,-350) 11(-350,-450) 12(-350,-550) 13(350,-550) 14(350,-450) 15(350,-350) 16(350,-250) 17(350,-150) 18(350,-50) 19(350,50) 20(350,150) 21(350,250) 22(350,350) 23(350,450) 24(350,550)
Top Overlay:
  lines w8: -400,-600 -350,-700 350,-700 400,-600 400,700 -400,700 -400,-600
Mechanical 8 keep-out:
  region: 0,0 10,0 10,10 0,10
Mechanical 9 keep-out:
  region: 0,0 10,0 10,10 0,10
Mechanical 16:
  lines w5: -133.86,711.02 -133.86,541.73 -86.61,541.73 -86.61,596.85 86.61,596.85 86.61,541.73 133.86,541.73 133.86,711.02 ; -133.86,711.02 -133.86,738.58 -118.11,738.58 -118.11,756.3 cw(c-108.86,754.82) -108.27,764.17 110.24,764.17 cw(c108.76,754.92) 118.11,754.33 118.11,738.58 133.86,738.58 133.86,711.02 ; -133.86,711.02 133.86,711.02
  lines w8: -157.48,762.2 -133.86,738.58 ; 133.86,738.58 157.48,762.2 ; -82,-700 -82,-520 300,-520 300,-600 400,-600 350,-700 -82,-700
  text "Keepout'" at 150,-600 h34
  text "A0" at -270,-576 h27.2
  text "A1" at -270,-466 h27.2
  text "A2" at -270,-376 h27.2
  text "RX" at -270,223 h27.2
  text "A4" at -270,-176 h27.2
  text "A3" at -270,-274 h27.2
  text "A5" at -270,-76 h27.2
  text "DAC" at -269,1 h27.2
  text "WKP" at -270,114 h27.2
  text "D0" at 269,-524 h27.2
  text "D1" at 269,-427 h27.2
  text "D2" at 269,-324 h27.2
  text "D3" at 269,-224 h27.2
  text "D4" at 269,-123 h27.2
  text "D5" at 269,-24 h27.2
  text "D6" at 269,76 h27.2
  text "D7" at 269,176 h27.2
  text "GND" at 268,284 h27.2
  text "VBAT" at 269,404 h25.5
  text "RST" at 268,495 h27.2
  text "3V3" at 269,592 h27.2
  text "TX" at -270,325 h27.2
  text "GND" at -270,409 h27.2
  text "VIN" at -270,513 h27.2